# Altium footprint library SOT.PcbLib: 21 footprints (part 2 of 2)
Each footprint in its own frame and in the unit in brackets; x right, y up, seen from the top. Pads: shape width x height; smd on the part's side, far side on the other; paste and mask are expansions set on the pad; w line width, h text height; cw(c..) or ccw(c..) is an arc to the next point about the centre after c.
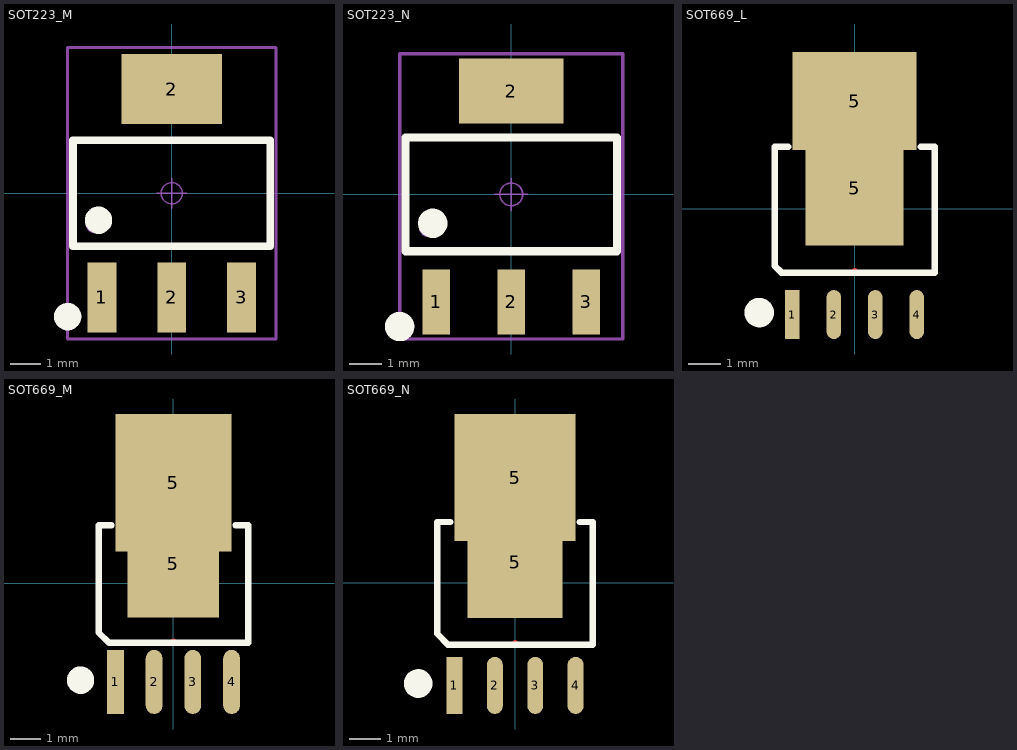
[diagram p1: the footprints below, top view; thin cyan lines are the x and y axes]

## SOT223_M [mm] "6.4x7x1.6mm(长宽高)"
height 1.7
pads (4):
  rect 0.95x2.3 smd: 1(-2.3,-3.429) 2(0,-3.429) 3(2.3,-3.429)
  rect 3.3x2.3 smd: 2(0,3.429)
Top Overlay:
  circle w0.5: c-2.413,-0.889 r0.2
  circle w0.5: c-3.429,-4.064 r0.2
  lines w0.25: -3.25,-1.75 -3.25,1.75 3.25,1.75 3.25,-1.75 -3.25,-1.75
Mechanical 13:
  circle w0.1: c-2.536,-1.016 r0.25
  lines w0.1: -3.25,-1.75 3.25,-1.75 3.25,1.75 -3.25,1.75 -3.25,-1.75
Mechanical 15:
  circle w0.05: c0,0 r0.35
  lines w0.05: -0.5,0 0.5,0 ; 0,-0.5 0,0.5
  lines w0.1: -3.429,-4.8 3.429,-4.8 3.429,4.8 -3.429,4.8 -3.429,-4.8
3D body "SOT223.STEP": height 1.65, standoff -0.02, extent -3.25,-3.508 3.25,3.508

## SOT223_N [mm] "6.4x7x1.6mm(长宽高)"
height 1.7
pads (4):
  rect 0.85x2 smd: 1(-2.3,-3.302) 2(0,-3.302) 3(2.3,-3.302)
  rect 3.2x2 smd: 2(0,3.175)
Top Overlay:
  circle w0.5: c-3.429,-4.064 r0.2
  circle w0.5: c-2.413,-0.889 r0.2
  lines w0.25: -3.25,-1.75 3.25,-1.75 3.25,1.75 -3.25,1.75 -3.25,-1.75
Mechanical 13:
  circle w0.1: c-2.536,-1.016 r0.25
  lines w0.1: -3.25,-1.75 -3.25,1.75 3.25,1.75 3.25,-1.75 -3.25,-1.75
Mechanical 15:
  circle w0.05: c0,0 r0.35
  lines w0.05: -0.5,0 0.5,0 ; 0,-0.5 0,0.5
  lines w0.1: -3.429,-4.445 -3.429,4.318 3.429,4.318 3.429,-4.445 -3.429,-4.445
3D body "SOT223.STEP": height 1.65, standoff -0.02, extent -3.25,-3.508 3.25,3.508

## SOT669_L [mm] "6mm*4.9mm*1mm(长*宽*高）"
pads (6):
  rect 0.45x1.5 smd: 1(-1.905,-3.234)
  oval 0.45x1.5 smd: 2(-0.635,-3.234) 3(0.635,-3.234) 4(1.905,-3.234)
  rect 3x3.5 smd: 5(0,0.635)
  rect 3.8x3 smd: 5(0,3.302)
Top Layer:
  lines w0.203: 0,-1.905 0,-1.905
Top Overlay:
  circle w0.5: c-2.921,-3.175 r0.2
  lines w0.203: -2.032,1.905 -2.45,1.905 -2.45,-1.741 -2.241,-1.95 2.45,-1.95 2.45,1.905 2.032,1.905
Mechanical 15:
  circle w0.05: c0,0 r0.35
  lines w0.05: -0.5,0 0.5,0 ; 0,-0.5 0,0.5
3D body "SOT669.STEP": height 1.1, standoff -0.01, extent -2.45,-3.022 2.45,3.1

## SOT669_M [mm] "6mm*4.9mm*1mm(长*宽*高）"
pads (6):
  rect 0.55x2.1 smd: 1(-1.905,-3.234)
  oval 0.55x2.1 smd: 2(-0.635,-3.234) 3(0.635,-3.234) 4(1.905,-3.234)
  rect 3x3.5 smd: 5(0,0.635)
  rect 3.8x4.5 smd: 5(0,3.302)
Top Layer:
  lines w0.203: 0,-1.905 0,-1.905
Top Overlay:
  circle w0.5: c-3.048,-3.175 r0.2
  lines w0.203: -2.032,1.905 -2.45,1.905 -2.45,-1.614 -2.114,-1.95 2.45,-1.95 2.45,1.905 2.032,1.905
Mechanical 15:
  circle w0.05: c0,0 r0.35
  lines w0.05: -0.5,0 0.5,0 ; 0,-0.5 0,0.5
3D body "SOT669.STEP": height 1.1, standoff -0.01, extent -2.45,-3.022 2.45,3.1

## SOT669_N [mm] "6mm*4.9mm*1mm(长*宽*高）"
pads (6):
  rect 0.5x1.8 smd: 1(-1.905,-3.234)
  oval 0.5x1.8 smd: 2(-0.635,-3.234) 3(0.635,-3.234) 4(1.905,-3.234)
  rect 3x3.5 smd: 5(0,0.635)
  rect 3.8x4 smd: 5(0,3.302)
Top Layer:
  lines w0.203: 0,-1.905 0,-1.905
Top Overlay:
  circle w0.5: c-3.048,-3.175 r0.2
  lines w0.203: -2.032,1.905 -2.45,1.905 -2.45,-1.614 -2.114,-1.95 2.45,-1.95 2.45,1.905 2.032,1.905
Mechanical 15:
  circle w0.05: c0,0 r0.35
  lines w0.05: -0.5,0 0.5,0 ; 0,-0.5 0,0.5
3D body "SOT669.STEP": height 1.1, standoff -0.01, extent -2.45,-3.022 2.45,3.1